# EAGLE library part CAT24C256W (library blinkinlabs)
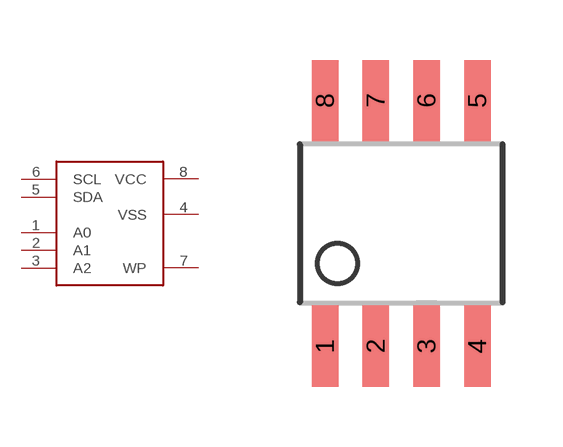
[diagram p18: symbol with the pads of SO08-150; footprint SO08-150]

Designator prefix -

## CAT24C256W  [SO08-150]
1  A0
2  A1
3  A2
4  VSS
5  SDA
6  SCL
7  WP
8  VCC

## Footprint SO08-150 (pad centres in mm)
Small Outline package 8 150 mil
smd 0.66 x 2.032: 1 -1.905,-3.073; 2 -0.635,-3.073; 3 0.635,-3.073; 4 1.905,-3.073; 5 1.905,3.073; 6 0.635,3.073; 7 -0.635,3.073; 8 -1.905,3.073